# Altium schematic symbol library INA137PA.SchLib: 1 symbol
Pins are listed as number, name and electrical type; pins without a type are passive.

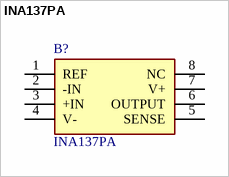
[diagram p0: symbol INA137PA]

## INA137PA
designator B?
Audio Differential Line Receivers, +-6dB (G=1/2 or 2); Manufacturer_Name: Texas Instruments; Geometry.Height: 5.08mm; Manufacturer_Part_Number: INA137PA; Mouser Part Number: 595-INA137PA; Mouser Price/Stock: https://www.mouser.co.uk/ProductDetail/Texas-Instruments/INA137PA?qs=VBduBm9rCJR0Awr2sjGHZA%3D%3D; Arrow Part Number: INA137PA; Arrow Price/Stock: https://www.arrow.com/en/products/ina137pa/texas-instruments?region=nac; Datasheet Link: https://www.ti.com/lit/gpn/ina137
footprint DIP794W53P254L959H508Q8N
pins: 1 REF, 2 -IN, 3 +IN, 4 V-, 5 SENSE, 6 OUTPUT, 7 V+, 8 NC